# Altium integrated library Analog Devices Data Converters Analog-to-Digital Converters.IntLib: 2400 symbols (part 71 of 338)
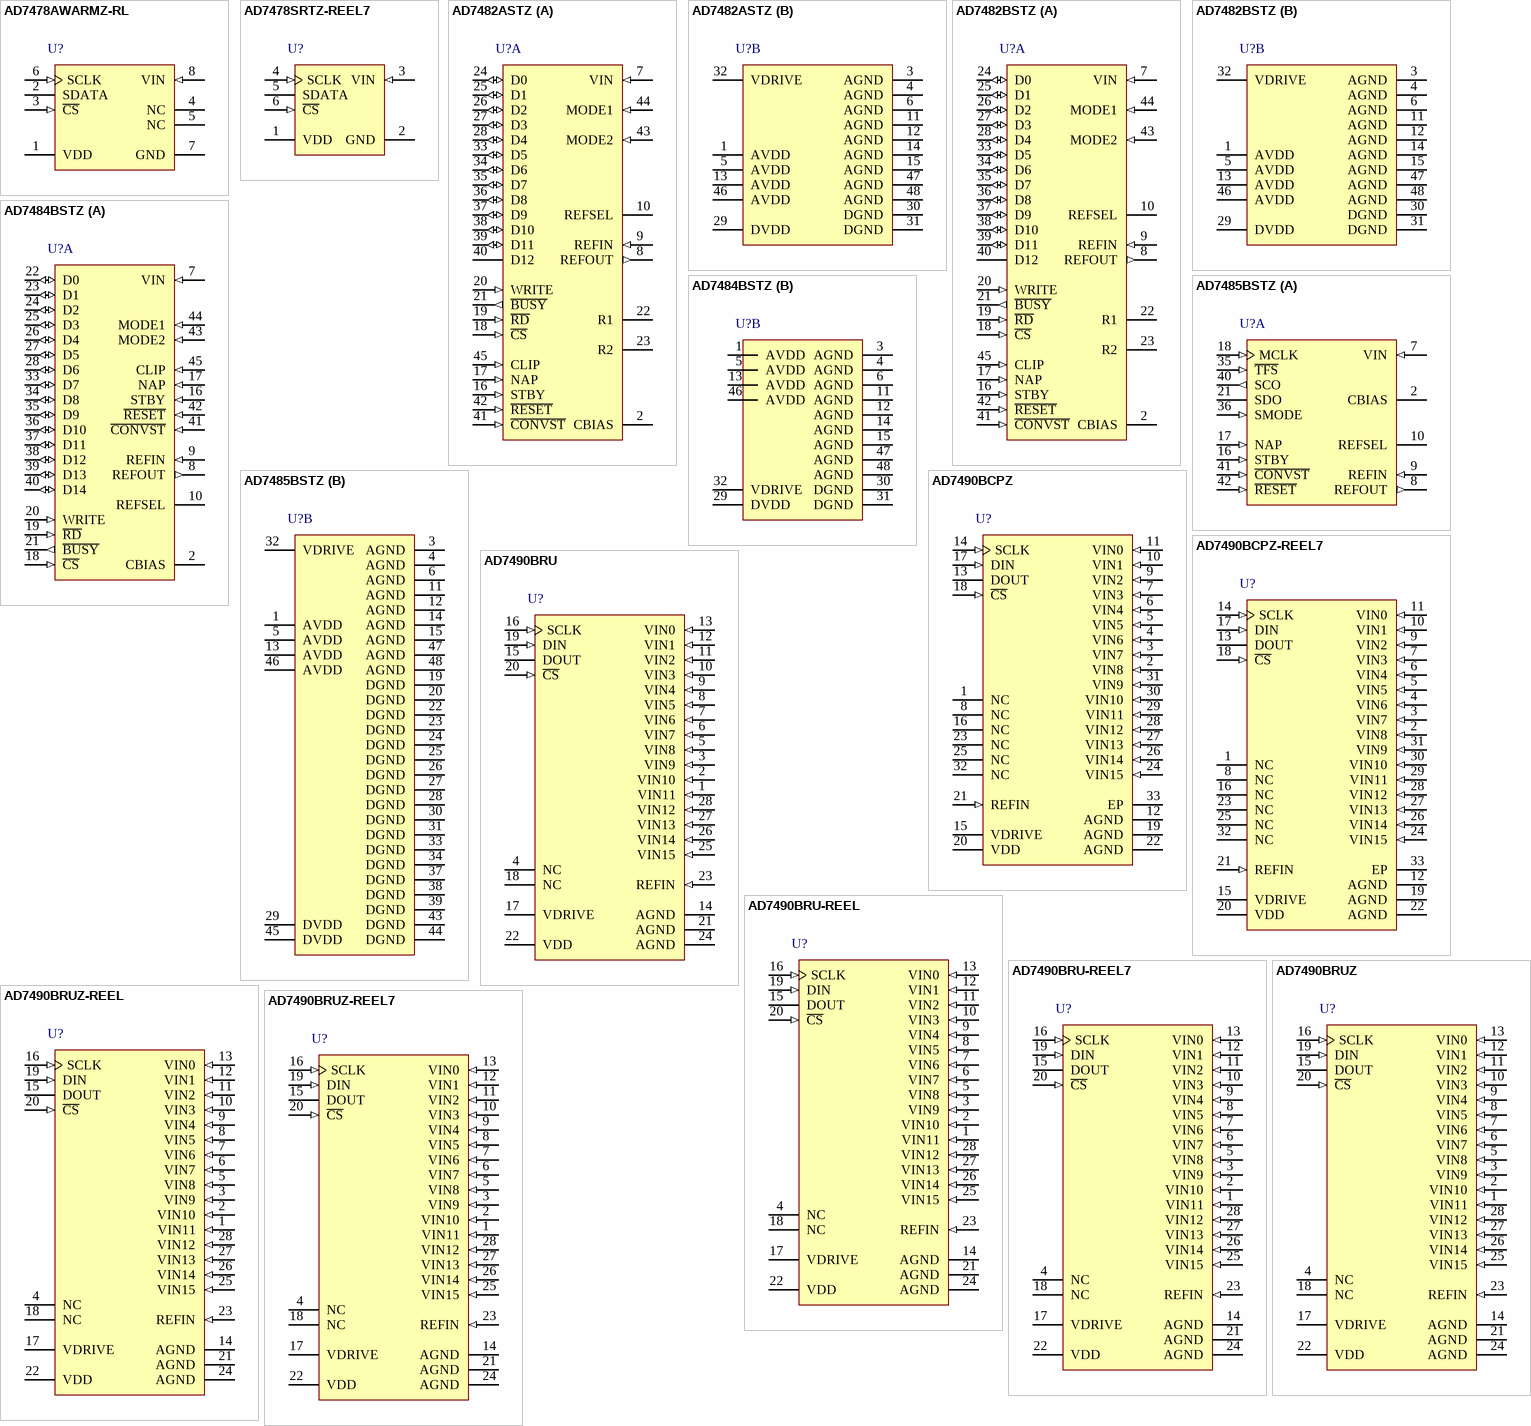
[diagram p295: symbols AD7478AWARMZ-RL to AD7490BRUZ-REEL7]

## AD7490BCPZ-REEL7
designator U?
16 Channel 12-Bit Analog-to-Digital Converter with Serial, SPI Interface and Sequencer, 1MSPS, -40 to +85 degC, CP-32-2, Pb-Free, Reel; Part Number: AD7490; Manufacturer: Analog Devices; Resolution (Bits): 12; Channels: 16; Throughput Rate (SPS): 1M; Interface: Ser, SPI; DatasheetVersion: Rev.C; PackageVersion: Jan-2005; PackageReference: CP-32-2; PackageDescription: 32-Lead Lead Frame Chip Scale Package [LFCSP_VQ] 5 x 5 mm Body, Very Thin Quad; RoHS: Y; Packing: Reel; Mounting Technology: Surface Mount; Code_JEDEC: MO-220-VHHD-2; ComponentLink1Description: Manufacturer URL; ComponentLink1URL: http://www.analog.com/en/index.html; ComponentLink2Description: Datasheet; ComponentLink2URL: http://www.analog.com/static/imported-files/data_sheets/AD7490.pdf; ComponentLink3Description: Package Specification; ComponentLink3URL: http://www.analog.com/static/imported-files/packages/414143737956480539664569CP_32_2.pdf; ComponentLink4Description: Product URL; ComponentLink4URL: http://www.analog.com/en/analog-to-digital-converters/ad-converters/ad7490/products/product.html
footprint CP-32-2_N (QFN, 32-Leads, Body 5x5mm, Pitch 0.5mm, Thermal Pad 3.1x3.1mm, IPC Medium Density)
footprint CP-32-2_L (QFN, 32-Leads, Body 5x5mm, Pitch 0.5mm, Thermal Pad 3.1x3.1mm, IPC High Density)
footprint CP-32-2_M (QFN, 32-Leads, Body 5x5mm, Pitch 0.5mm, Thermal Pad 3.1x3.1mm, IPC Low Density)
pins: 1 NC "No connect.", 2 VIN8 (in) "Analog Input 8. Sixteen single-ended analog input channels that are multiplexed into the on chip track-and-hold. The analog input channel to be converted is selected by using the address bits ADD3 through ADD0 of the control (See Datasheet)", 3 VIN7 (in) "Analog Input 7. Sixteen single-ended analog input channels that are multiplexed into the on chip track-and-hold. The analog input channel to be converted is selected by using the address bits ADD3 through ADD0 of the control (See Datasheet)", 4 VIN6 (in) "Analog Input 6. Sixteen single-ended analog input channels that are multiplexed into the on chip track-and-hold. The analog input channel to be converted is selected by using the address bits ADD3 through ADD0 of the control (See Datasheet)", 5 VIN5 (in) "Analog Input 5. Sixteen single-ended analog input channels that are multiplexed into the on chip track-and-hold. The analog input channel to be converted is selected by using the address bits ADD3 through ADD0 of the control (See Datasheet)", 6 VIN4 (in) "Analog Input 4. Sixteen single-ended analog input channels that are multiplexed into the on chip track-and-hold. The analog input channel to be converted is selected by using the address bits ADD3 through ADD0 of the control (See Datasheet)", 7 VIN3 (in) "Analog Input 3. Sixteen single-ended analog input channels that are multiplexed into the on chip track-and-hold. The analog input channel to be converted is selected by using the address bits ADD3 through ADD0 of the control (See Datasheet)", 8 NC "No connect.", 9 VIN2 (in) "Analog Input 2. Sixteen single-ended analog input channels that are multiplexed into the on chip track-and-hold. The analog input channel to be converted is selected by using the address bits ADD3 through ADD0 of the control (See Datasheet)", 10 VIN1 (in) "Analog Input 1. Sixteen single-ended analog input channels that are multiplexed into the on chip track-and-hold. The analog input channel to be converted is selected by using the address bits ADD3 through ADD0 of the control (See Datasheet)", 11 VIN0 (in) "Analog Input 0. Sixteen single-ended analog input channels that are multiplexed into the on chip track-and-hold. The analog input channel to be converted is selected by using the address bits ADD3 through ADD0 of the control (See Datasheet)", 12 AGND (power) "Analog Ground. Ground reference point for all circuitry on the AD7490. All analog/digital input signals and any external reference signal should be referred to this AGND voltage. All AGND pins should be connected together.", 13 DOUT (hiz) "Data Out. Logic output. The conversion result from the AD7490 is provided on this output as a serial data stream. The bits are clocked out on the falling edge of the SCLK input. The data stream consists of four address bits (See Datasheet)", 14 SCLK (in) "Serial Clock. Logic input. SCLK provides the serial clock for accessing data from the part. This clock input is also used as the clock source for the conversion process of the AD7490.", 15 VDRIVE (power) "Logic Power Supply Input. The voltage supplied at this pin determines at what voltage the serial interface of the AD7490 operates.", 16 NC "No connect.", 17 DIN (in) "Data In. Logic input. Data to be written to the control register of the AD7490 is provided on this input and is clocked into the register on the falling edge of SCLK (see the Control Register section).", 18 ~{CS} (in) "Chip Select. Active low logic input. This input provides the dual function of initiating conversions on the AD7490 and also frames the serial data transfer.", 19 AGND (power) "Analog Ground. Ground reference point for all circuitry on the AD7490. All analog/digital input signals and any external reference signal should be referred to this AGND voltage. All AGND pins should be connected together.", 20 VDD (power) "Power Supply Input. The VDD range for the AD7490 is from 2.7 V to 5.25 V. For the 0 V to 2 x REFIN range, VDD should be from 4.75 V to 5.25 V.", 21 REFIN (in) "Reference Input for the AD7490. An external reference must be applied to this input. The voltage range for the external reference is 2.5 V +/- 1% for specified performance.", 22 AGND (power) "Analog Ground. Ground reference point for all circuitry on the AD7490. All analog/digital input signals and any external reference signal should be referred to this AGND voltage. All AGND pins should be connected together.", 23 NC "No connect.", 24 VIN15 (in) "Analog Input 15. Sixteen single-ended analog input channels that are multiplexed into the on chip track-and-hold. The analog input channel to be converted is selected by using the address bits ADD3 through ADD0 of the (See Datasheet)", 25 NC "No connect.", 26 VIN14 (in) "Analog Input 14. Sixteen single-ended analog input channels that are multiplexed into the on chip track-and-hold. The analog input channel to be converted is selected by using the address bits ADD3 through ADD0 of the (See Datasheet)", 27 VIN13 (in) "Analog Input 13. Sixteen single-ended analog input channels that are multiplexed into the on chip track-and-hold. The analog input channel to be converted is selected by using the address bits ADD3 through ADD0 of the (See Datasheet)", 28 VIN12 (in) "Analog Input 12. Sixteen single-ended analog input channels that are multiplexed into the on chip track-and-hold. The analog input channel to be converted is selected by using the address bits ADD3 through ADD0 of the (See Datasheet)", 29 VIN11 (in) "Analog Input 11. Sixteen single-ended analog input channels that are multiplexed into the on chip track-and-hold. The analog input channel to be converted is selected by using the address bits ADD3 through ADD0 of the (See Datasheet)", 30 VIN10 (in) "Analog Input 10. Sixteen single-ended analog input channels that are multiplexed into the on chip track-and-hold. The analog input channel to be converted is selected by using the address bits ADD3 through ADD0 of the (See Datasheet)", 31 VIN9 (in) "Analog Input 9. Sixteen single-ended analog input channels that are multiplexed into the on chip track-and-hold. The analog input channel to be converted is selected by using the address bits ADD3 through ADD0 of the control (See Datasheet)", 32 NC "No connect.", 33 EP (power) "Exposed pad."